# EAGLE library part MAX4624 (library 000001)
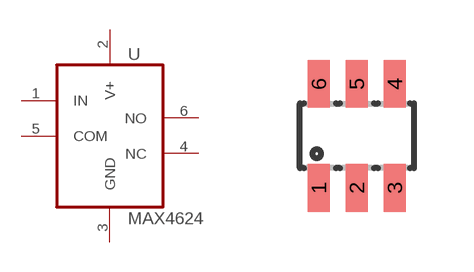
[diagram p14: symbol with the pads of SOT23-6L; footprint SOT23-6L]

Designator prefix -

## MAX4624  [SOT23-6L]
1  IN  in
2  V+  pwr
3  GND  pwr
4  NC  pas
5  COM  pas
6  NO  pas

## Footprint SOT23-6L (pad centres in mm)
Small Outline Transistor
smd 0.55 x 1.2: 1 -0.95,-1.3; 2 0,-1.3; 3 0.95,-1.3; 4 0.95,1.3; 5 0,1.3; 6 -0.95,1.3